# Altium schematic symbol library 860010273011.SchLib: 1 symbol
Pins are listed as number, name and electrical type; pins without a type are passive.

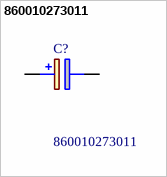
[diagram p0: symbol 860010273011]

## 860010273011
designator C?
Wurth Elektronik 470uF 10 V Aluminium Electrolytic Capacitor, WCAP-ATG8 Series 2000h 6.3 (Dia.) x 11mm; Geometry.Height: 12.5mm; Mouser Part Number: 710-860010273011; Mouser Price/Stock: https://www.mouser.co.uk/ProductDetail/Wurth-Elektronik/860010273011?qs=0KOYDY2FL28ooChuQJugtQ%3D%3D; Manufacturer_Name: Wurth Elektronik; Manufacturer_Part_Number: 860010273011; Datasheet Link: https://katalog.we-online.de/pbs/datasheet/860010273011.pdf
footprint CAPPRD250W52D630H1250
pins: 1 +, 2 -